# EAGLE library part APPLE_2.0C_COPROCESSOR (library Controller Board)
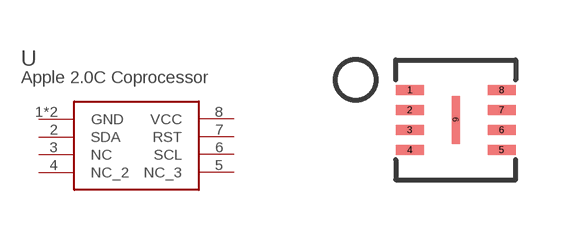
[diagram p7: symbol with the pads of PG-USON-8-1; footprint PG-USON-8-1]

Designator prefix -

## APPLE_2.0C_COPROCESSOR  [PG-USON-8-1]
1  GND
2  SDA
3  NC  nc
4  NC_2  nc
5  NC_3
6  SCL
7  RST
8  VCC
9  GND

## Footprint PG-USON-8-1 (pad centres in mm)
smd 0.7 x 0.25: 1 -1.15,0.75; 2 -1.15,0.25; 3 -1.15,-0.25; 4 -1.15,-0.75; 5 1.15,-0.75; 6 1.15,-0.25; 7 1.15,0.25; 8 1.15,0.75
smd 0.2 x 1.2: 9 0,0